# Altium footprint library PEC12R3220FS0024.PcbLib: 1 footprints
Each footprint in its own frame and in the unit in brackets; x right, y up, seen from the top. Pads: shape width x height; smd on the part's side, far side on the other; paste and mask are expansions set on the pad; w line width, h text height; cw(c..) or ccw(c..) is an arc to the next point about the centre after c.
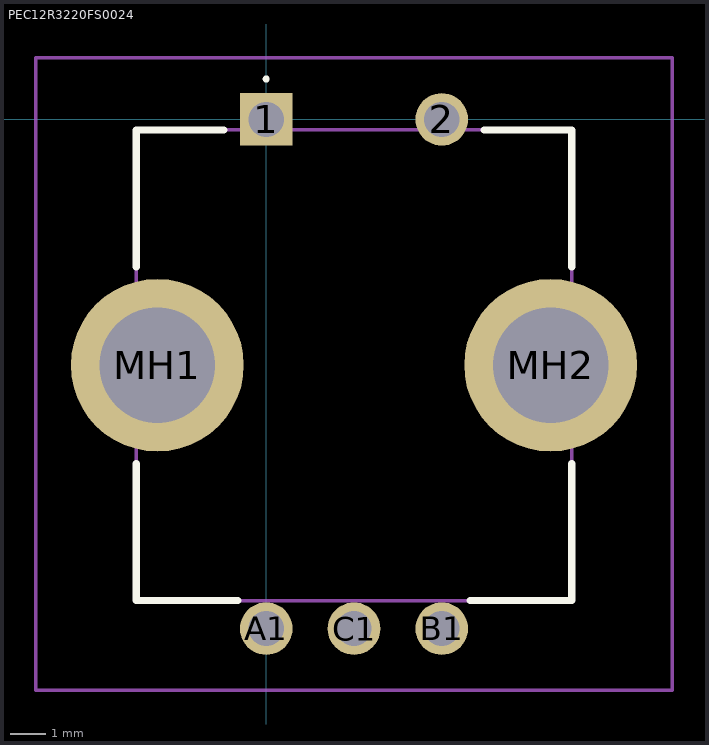
[diagram p0: the footprint, top view; thin cyan lines are the x and y axes]

## PEC12R3220FS0024 [mm]
pads (7):
  rect 1.5x1.5 hole 1: 1(0,0)
  round 1.5 hole 1: 2(5,0) A1(0,-14.5) B1(5,-14.5) C1(2.5,-14.5)
  round 4.92 hole 3.28: MH1(-3.1,-7) MH2(8.1,-7)
Top Overlay:
  lines w0.1: 0,1.1 cw(c0,1.15) 0,1.2 ; 0,1.1 0,1.1 ; 0,1.1 ccw(c0,1.15) 0,1.2 ; 0,1.2 0,1.2
  lines w0.2: -3.7,-9.8 -3.7,-13.7 -0.8,-13.7 ; -3.7,-4.2 -3.7,-0.3 -1.2,-0.3 ; 5.8,-13.7 8.7,-13.7 8.7,-9.8 ; 6.2,-0.3 8.7,-0.3 8.7,-4.2
Mechanical 15:
  lines w0.1: -3.7,-13.7 8.7,-13.7 8.7,-0.3 -3.7,-0.3 -3.7,-13.7
Mechanical 20:
  lines w0.1: -6.56,-16.25 11.56,-16.25 11.56,1.75 -6.56,1.75 -6.56,-16.25